# EAGLE library part WE-FB_LT3751_EE35/18/10 (library Wuerth_Elektronik_eiSos_ v6.1)
Flyback Converter WE-FB for LT3751 - designd for LT3751
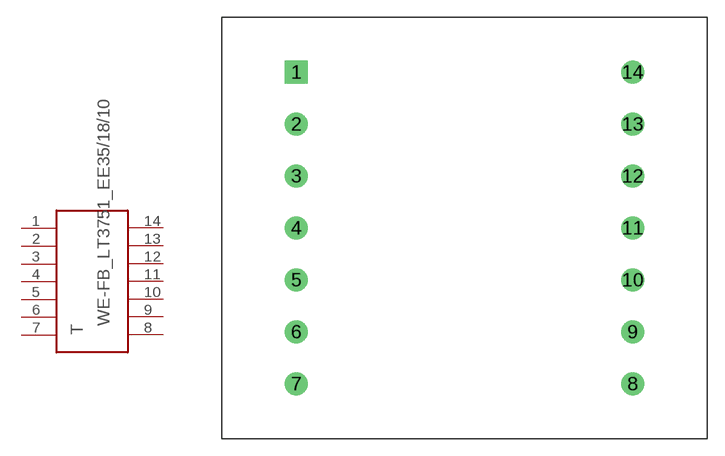
[diagram p61: symbol with the pads of WE_EE35/18/10_THT_HORIZONTAL_14PIN; footprint WE_EE35/18/10_THT_HORIZONTAL_14PIN]

Designator prefix T

## WE-FB_LT3751_EE35/18/10_WE-FB_LT3751_EE35/18/10  [WE_EE35/18/10_THT_HORIZONTAL_14PIN]
1  1  pas
2  2  pas
3  3  pas
4  4  pas
5  5  pas
6  6  pas
7  7  pas
8  8  pas
9  9  pas
10  10  pas
11  11  pas
12  12  pas
13  13  pas
14  14  pas

## Footprint WE_EE35/18/10_THT_HORIZONTAL_14PIN (pad centres in mm)
Transformer, EE35/18/10 THT Horizontal 14Pin
drill 1.32 square: 1 -14.55,13.5
drill 1.32 round: 2 -14.55,9; 3 -14.55,4.5; 4 -14.55,0; 5 -14.55,-4.5; 6 -14.55,-9; 7 -14.55,-13.5; 8 14.55,-13.5; 9 14.55,-9; 10 14.55,-4.5; 11 14.55,0; 12 14.55,4.5; 13 14.55,9; 14 14.55,13.5